# Altium footprint library LOGO.PcbLib: 6 footprints
Each footprint in its own frame and in the unit in brackets; x right, y up, seen from the top. Pads: shape width x height; smd on the part's side, far side on the other; paste and mask are expansions set on the pad; w line width, h text height; cw(c..) or ccw(c..) is an arc to the next point about the centre after c.
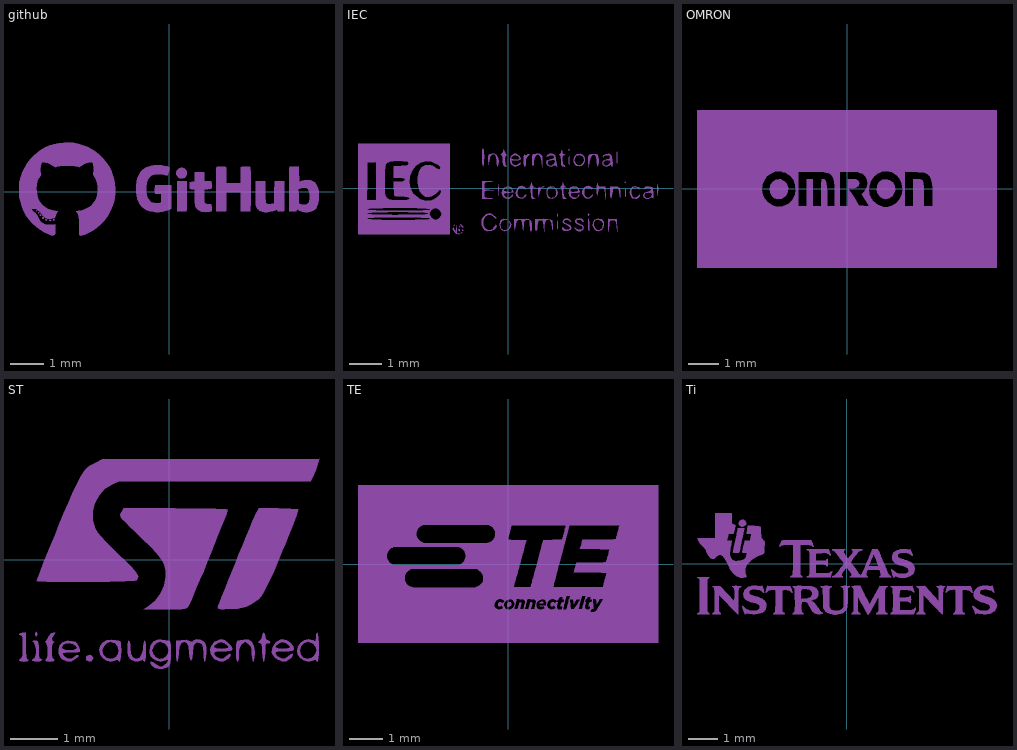
[diagram p0: the footprints below, top view; thin cyan lines are the x and y axes]

## github [mm]
Mechanical 9:
  drawing of 15 lines, arcs and shapes, not listed

## IEC [mm]
Mechanical 9:
  drawing of 51 lines, arcs and shapes, not listed

## OMRON [mm]
Mechanical 9:
  region: 1.403,0.273 1.502,0.198 1.562,0.088 1.576,-0.047 1.556,-0.143 1.49,-0.253 1.39,-0.322 1.272,-0.346 1.153,-0.317 1.102,-0.285 1.011,-0.178 0.971,-0.049 0.987,0.084 0.994,0.1 1.062,0.218 1.153,0.282 1.272,0.3
  region: -2.173,0.304 -2.055,0.246 -1.974,0.149 -1.935,0.029 -1.941,-0.099 -1.997,-0.218 -2.03,-0.256 -2.14,-0.329 -2.265,-0.35 -2.385,-0.318 -2.389,-0.315 -2.456,-0.248 -2.511,-0.147 -2.539,-0.039 -2.54,-0.016 -2.514,0.112 -2.444,0.217 -2.343,0.287 -2.227,0.311
  region: 4.921,-2.603 -4.921,-2.603 -4.921,-0.046 -4.921,2.572 4.921,2.572 hole: -0.222,0.54 -0.222,-0.572 0,-0.572 0,0.318 0.168,0.318 0.298,0.307 0.375,0.273 0.409,0.21 0.413,0.171 0.385,0.079 0.308,0.02 0.188,0 0.064,0 0.237,-0.278 0.41,-0.556 0.554,-0.565 0.64,-0.567 0.691,-0.562 0.699,-0.557 0.682,-0.523 0.64,-0.452 0.582,-0.364 0.466,-0.189 0.55,-0.101 0.607,-0.013 0.628,0.02 0.658,0.156 0.64,0.292 0.576,0.41 0.497,0.479 0.434,0.509 0.356,0.527 0.246,0.537 0.088,0.54 0.087,0.54 hole: 1.905,0.546 1.905,-0.572 2.159,-0.572 2.159,0.318 2.3,0.318 2.391,0.313 2.455,0.295 2.498,0.252 2.524,0.177 2.536,0.06 2.54,-0.109 2.54,-0.177 2.54,-0.572 2.794,-0.572 2.794,-0.189 2.79,0.019 2.776,0.175 2.749,0.292 2.707,0.38 2.647,0.451 2.636,0.46 2.593,0.49 2.534,0.511 2.445,0.524 2.312,0.532 2.235,0.535 hole: -1.141,0.54 -1.587,0.54 -1.587,-0.572 -1.333,-0.572 -1.333,0.318 -1.111,0.318 -1.111,-0.572 -0.857,-0.572 -0.857,-0.127 -0.857,0.049 -0.854,0.171 -0.849,0.25 -0.838,0.293 -0.822,0.313 -0.798,0.317 -0.796,0.318 -0.733,0.304 -0.688,0.257 -0.658,0.171 -0.641,0.038 -0.635,-0.149 -0.635,-0.198 -0.635,-0.572 -0.413,-0.572 -0.413,-0.157 -0.416,0.066 -0.431,0.236 -0.465,0.359 -0.526,0.444 -0.621,0.497 -0.758,0.526 -0.945,0.538 hole: 1.309,0.561 1.155,0.547 1.01,0.487 0.886,0.388 0.792,0.254 0.739,0.091 0.73,-0.013 0.75,-0.191 0.814,-0.337 0.883,-0.425 1.027,-0.537 1.19,-0.595 1.361,-0.594 1.443,-0.572 1.45,-0.569 1.602,-0.48 1.718,-0.345 1.789,-0.178 1.81,-0.016 1.785,0.171 1.709,0.327 1.609,0.435 1.464,0.526 hole: -2.191,0.559 -2.349,0.548 -2.493,0.491 -2.614,0.394 -2.706,0.267 -2.763,0.118 -2.777,-0.046 -2.742,-0.216 -2.698,-0.312 -2.586,-0.456 -2.444,-0.552 -2.285,-0.596 -2.121,-0.588 -1.962,-0.523 -1.919,-0.493 -1.795,-0.363 -1.719,-0.207 -1.69,-0.039 -1.708,0.129 -1.77,0.286 -1.876,0.419 -2.023,0.514 -2.118,0.54

## ST [mm]
Mechanical 9:
  drawing of 18 lines, arcs and shapes, not listed

## TE [mm]
Mechanical 9:
  region: 1.042,-1.136 1.055,-1.149 1.061,-1.167 1.063,-1.175 1.06,-1.18 1.05,-1.182 1.031,-1.183 1.008,-1.183 0.981,-1.182 0.961,-1.18 0.951,-1.177 0.951,-1.176 0.957,-1.164 0.972,-1.151 0.992,-1.14 1.012,-1.133 1.019,-1.132
  region: 0.079,-1.15 0.086,-1.156 0.099,-1.18 0.101,-1.208 0.093,-1.235 0.075,-1.259 0.055,-1.273 0.032,-1.282 0.014,-1.283 -0.002,-1.275 -0.01,-1.269 -0.025,-1.252 -0.029,-1.229 -0.024,-1.198 -0.01,-1.172 0.01,-1.153 0.033,-1.142 0.057,-1.14
  region: 9 vertices and 19 holes, not listed, extent -4.499,-2.359 4.499,2.359

## Ti [mm]
Mechanical 9:
  drawing of 18 lines, arcs and shapes, not listed